# EAGLE library part XMOS_AVB_BRD_V4_ST-MICROELECTRONICS2_ST1S06PUR (library xmos_avb_brd_V4)
BUCK REGULATOR ADJ 1.5A SYNC
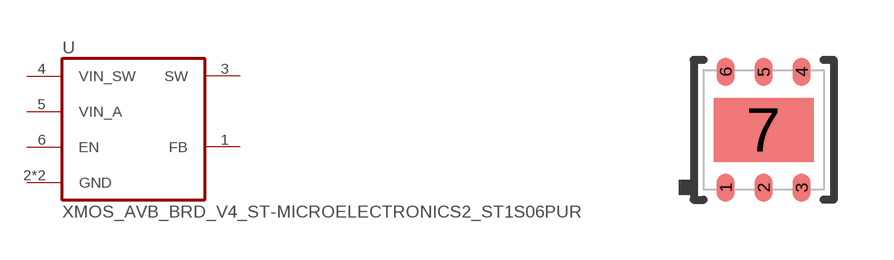
[diagram p9: symbol with the pads of XMOS_AVB_BRD_V4_ST-MICROELECTRONICS2_DFN6; footprint XMOS_AVB_BRD_V4_ST-MICROELECTRONICS2_DFN6]

Designator prefix U

## XMOS_AVB_BRD_V4_ST-MICROELECTRONICS2_ST1S06PUR  [XMOS_AVB_BRD_V4_ST-MICROELECTRONICS2_DFN6]
1  FB  in
2  GND  pwr
3  SW  out
4  VIN_SW  in
5  VIN_A  in
6  EN  in
7  GND  pwr

## Footprint XMOS_AVB_BRD_V4_ST-MICROELECTRONICS2_DFN6 (pad centres in mm)
DFN 6 body 3x3mm, pitch .95 mm
smd 0.45 x 0.7: 1 -0.95,-1.45; 2 0,-1.45; 3 0.95,-1.45; 4 0.95,1.45; 5 0,1.45; 6 -0.95,1.45
smd 2.5 x 1.6: 7 0,0